# EAGLE library part SQ3456EV-T1-GE3 (library Vishay_By_element14_Batch_1)
N-Channel MOSFET
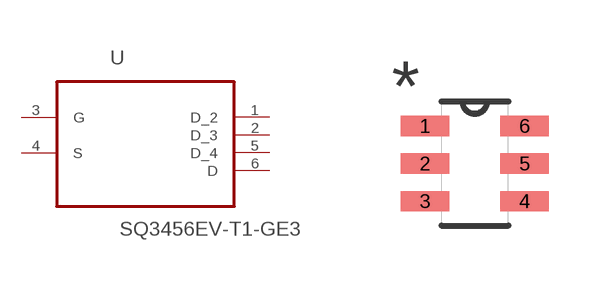
[diagram p105: symbol with the pads of SOP95P285X110-6N; footprint SOP95P285X110-6N]

Designator prefix U

## SQ3456EV-T1-GE3 (MPN: SQ3456EV-T1-GE3; OC_FARNELL: 1869890; OC_NEWARK: 37T8276; PACKAGE: TSOP-6; SUPPLIER: Vishay Siliconix)  [SOP95P285X110-6N]
1  D_2  out
2  D_3  out
3  G  in
4  S  in
5  D_4  out
6  D  out

## Footprint SOP95P285X110-6N (pad centres in mm)
smd 1.219 x 0.508: 1 -1.245,0.94; 2 -1.245,0; 3 -1.245,-0.94; 4 1.245,-0.94; 5 1.245,0; 6 1.245,0.94